# Altium footprint library TO-247-3(Invineon).PcbLib: 1 footprints
Each footprint in its own frame and in the unit in brackets; x right, y up, seen from the top. Pads: shape width x height; smd on the part's side, far side on the other; paste and mask are expansions set on the pad; w line width, h text height; cw(c..) or ccw(c..) is an arc to the next point about the centre after c.
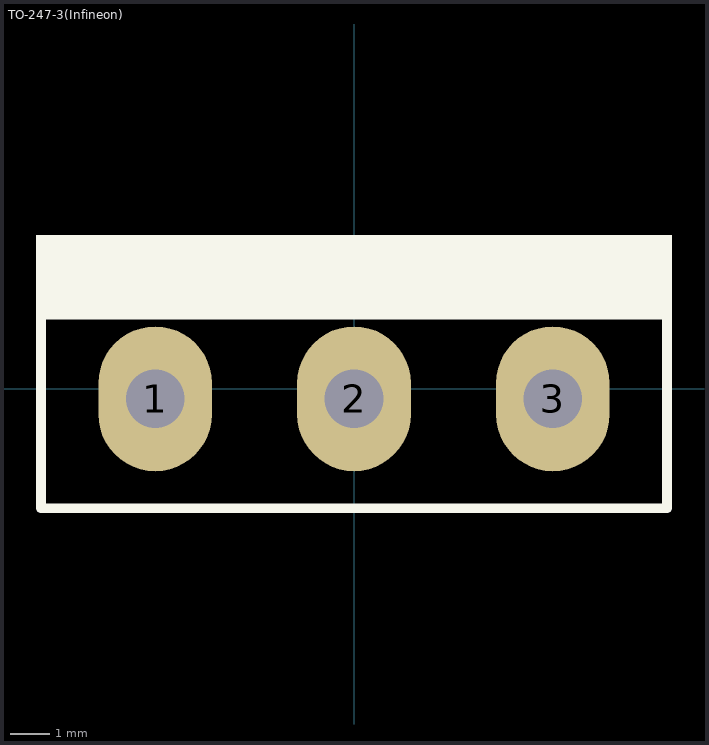
[diagram p0: the footprint, top view; thin cyan lines are the x and y axes]

## TO-247-3(Infineon) [mm]
pads (3):
  oval 2.9x3.7 hole 1.5: 1(-5.08,-0.254) 2(0,-0.254) 3(5.08,-0.254)
Top Overlay:
  rectangle: -8.128,1.905 8.128,3.937
  lines w0.254: -8.001,-3.048 8.001,-3.048 8.001,1.905 -8.001,1.905 -8.001,-3.048
Bottom Overlay:
  lines w0.254: -8.128,-3.175 8.128,-3.175 8.128,3.937 -8.128,3.937 -8.128,-3.175
3D body "6R125C6.STEP": height 35.4, standoff -5.4, extent -8,-3 8,1.91